# EAGLE library part PTSM82903SISB2R (library TexasInstruments)
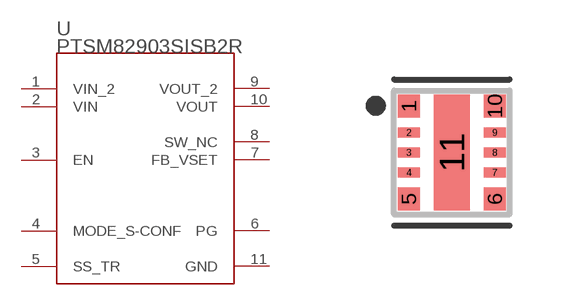
[diagram p19: symbol with the pads of SIS0011A-MFG; footprint SIS0011A-MFG]

Designator prefix U

## PTSM82903SISB2R (COPYRIGHT: Copyright (C) 2023 Ultra Librarian. All rights reserved.; MANUFACTURER_PART_NUMBER: PTSM82903SISB2R; MFR_NAME: Texas Instruments; REFDES: RefDes; TYPE: TYPE)  [SIS0011A-MFG]
1  VIN_2  pwr
2  VIN  pwr
3  EN  in
4  MODE_S-CONF  in
5  SS_TR  pas
6  PG  oc
7  FB_VSET  pas
8  SW_NC  pas
9  VOUT_2  pwr
10  VOUT  pwr
11  GND  pwr

## Footprint SIS0011A-MFG (pad centres in mm)
smd 0.55 x 0.575: 1 -1.075,1.163; 5 -1.075,-1.163; 6 1.075,-1.163; 10 1.075,1.163
smd 0.55 x 0.25: 2 -1.075,0.5; 3 -1.075,0; 4 -1.075,-0.5; 7 1.075,-0.5; 8 1.075,0; 9 1.075,0.5
smd 0.9 x 2.9: 11 0,0